# Altium footprint library MOSFET_P-CH_20V_SOT23.PcbLib: 1 footprints
Each footprint in its own frame and in the unit in brackets; x right, y up, seen from the top. Pads: shape width x height; smd on the part's side, far side on the other; paste and mask are expansions set on the pad; w line width, h text height; cw(c..) or ccw(c..) is an arc to the next point about the centre after c.
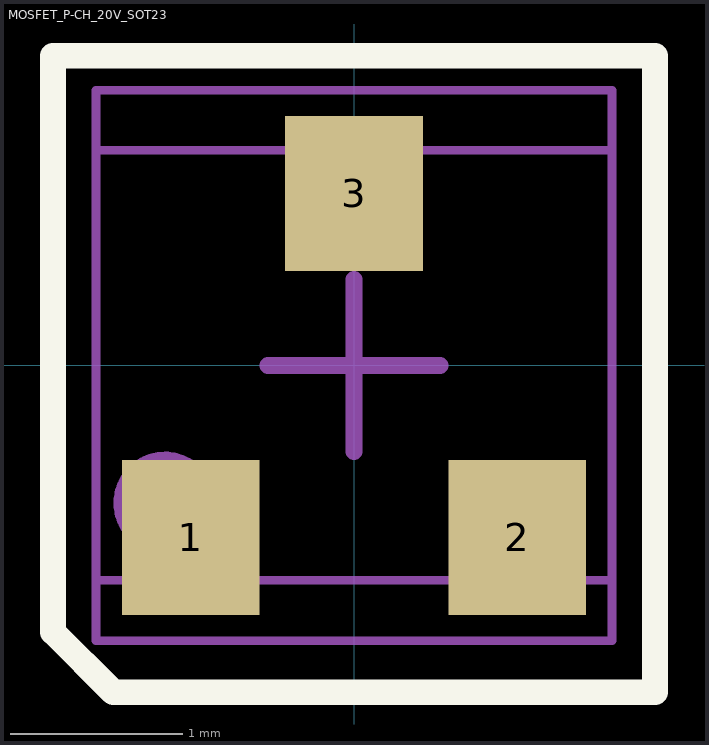
[diagram p0: the footprint, top view; thin cyan lines are the x and y axes]

## MOSFET_P-CH_20V_SOT23 [mm] "p-channel MOSFET 20V 3.6A SOT23"
pads (3):
  rect 0.8x0.9 smd: 1(-0.95,-1) 2(0.95,-1) 3(0,1)
Top Overlay:
  lines w0.15: -1.75,-1.55 -1.75,1.8 1.75,1.8 1.75,-1.9 -1.1,-1.9 -1.4,-1.9 -1.75,-1.55
Top Assembly:
  circle w0.15: c-1.1,-0.8 r0.224
  lines w0.05: -1.5,-1.25 1.5,-1.25 1.5,1.25 -1.5,1.25 -1.5,-1.25
  text ".Designator" at -2.539,-0.169 h0.51
Top Courtyard:
  lines w0.05: -1.5,-1.6 1.5,-1.6 1.5,1.6 -1.5,1.6 -1.5,-1.6
  lines w0.1: -0.5,0 0.5,0 ; 0,-0.5 0,0.5
3D body "CircuitWorks-SOT-23.step": height 1.01, standoff -0.09, extent -1.5,-1.25 1.5,1.25